# EAGLE library part 6273XX20621_62735020621 (library WR-BHD)
WR-BHD 1.27 mm Male Characteristics Working Voltage: 250 V Operating Temperature : -40°C up to 105°C UL approval: E323964 UL94-V0 Applications Industrial Production lines Details see: www.we-online.com/components/products/WTB_WR_BHD_BOX_HEADER_1_27MM_MALE Updated by Ella 2026-09-16 2026 (C) Würth Elektronik
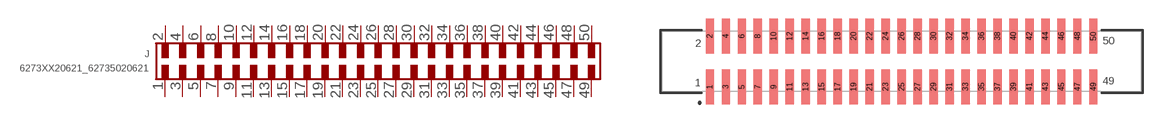
[diagram p205: symbol with the pads of 62735020621; footprint 62735020621]

Designator prefix J

## 6273XX20621_62735020621 (CATEGORY: Connectors; DATASHEET: https://www.we-online.com/redexpert/spec/62735020621?ae; GENDER: Male; LENGTH: 38.1 mm; MANUFACTURER: Würth Elektronik; MOUNT: SMT; MPN: 62735020621; OPERATING_TEMPERATURE: -40 °C up to +105 °C; PACKAGING: Tape and Reel with Cap; PINS: 50; PITCH: 1.27mm; RATED_CURRENT: 1 A; SIZE: SMT Straight; TYPE: Straight; VALUE: 62735020621)  [62735020621]
1  1  pas
2  2  pas
3  3  pas
4  4  pas
5  5  pas
6  6  pas
7  7  pas
8  8  pas
9  9  pas
10  10  pas
11  11  pas
12  12  pas
13  13  pas
14  14  pas
15  15  pas
16  16  pas
17  17  pas
18  18  pas
19  19  pas
20  20  pas
21  21  pas
22  22  pas
23  23  pas
24  24  pas
25  25  pas
26  26  pas
27  27  pas
28  28  pas
29  29  pas
30  30  pas
31  31  pas
32  32  pas
33  33  pas
34  34  pas
35  35  pas
36  36  pas
37  37  pas
38  38  pas
39  39  pas
40  40  pas
41  41  pas
42  42  pas
43  43  pas
44  44  pas
45  45  pas
46  46  pas
47  47  pas
48  48  pas
49  49  pas
50  50  pas

## Footprint 62735020621 (pad centres in mm)
WR-BHD Wire-to-Board Connectors, 1.27mm, Male, SMT Straight, 50pins
smd 0.65 x 2.76: 1 -15.24,-2.02; 2 -15.24,2.02; 3 -13.97,-2.02; 4 -13.97,2.02; 5 -12.7,-2.02; 6 -12.7,2.02; 7 -11.43,-2.02; 8 -11.43,2.02; 9 -10.16,-2.02; 10 -10.16,2.02; 11 -8.89,-2.02; 12 -8.89,2.02; 13 -7.62,-2.02; 14 -7.62,2.02; 15 -6.35,-2.02; 16 -6.35,2.02; 17 -5.08,-2.02; 18 -5.08,2.02; 19 -3.81,-2.02; 20 -3.81,2.02; 21 -2.54,-2.02; 22 -2.54,2.02; 23 -1.27,-2.02; 24 -1.27,2.02; 25 0,-2.02; 26 0,2.02; 27 1.27,-2.02; 28 1.27,2.02; 29 2.54,-2.02; 30 2.54,2.02; 31 3.81,-2.02; 32 3.81,2.02; 33 5.08,-2.02; 34 5.08,2.02; 35 6.35,-2.02; 36 6.35,2.02; 37 7.62,-2.02; 38 7.62,2.02; 39 8.89,-2.02; 40 8.89,2.02; 41 10.16,-2.02; 42 10.16,2.02; 43 11.43,-2.02; 44 11.43,2.02; 45 12.7,-2.02; 46 12.7,2.02; 47 13.97,-2.02; 48 13.97,2.02; 49 15.24,-2.02; 50 15.24,2.02